# Altium footprint library Sheet12.PCBLIB: 13 footprints
Each footprint in its own frame and in the unit in brackets; x right, y up, seen from the top. Pads: shape width x height; smd on the part's side, far side on the other; paste and mask are expansions set on the pad; w line width, h text height; cw(c..) or ccw(c..) is an arc to the next point about the centre after c.
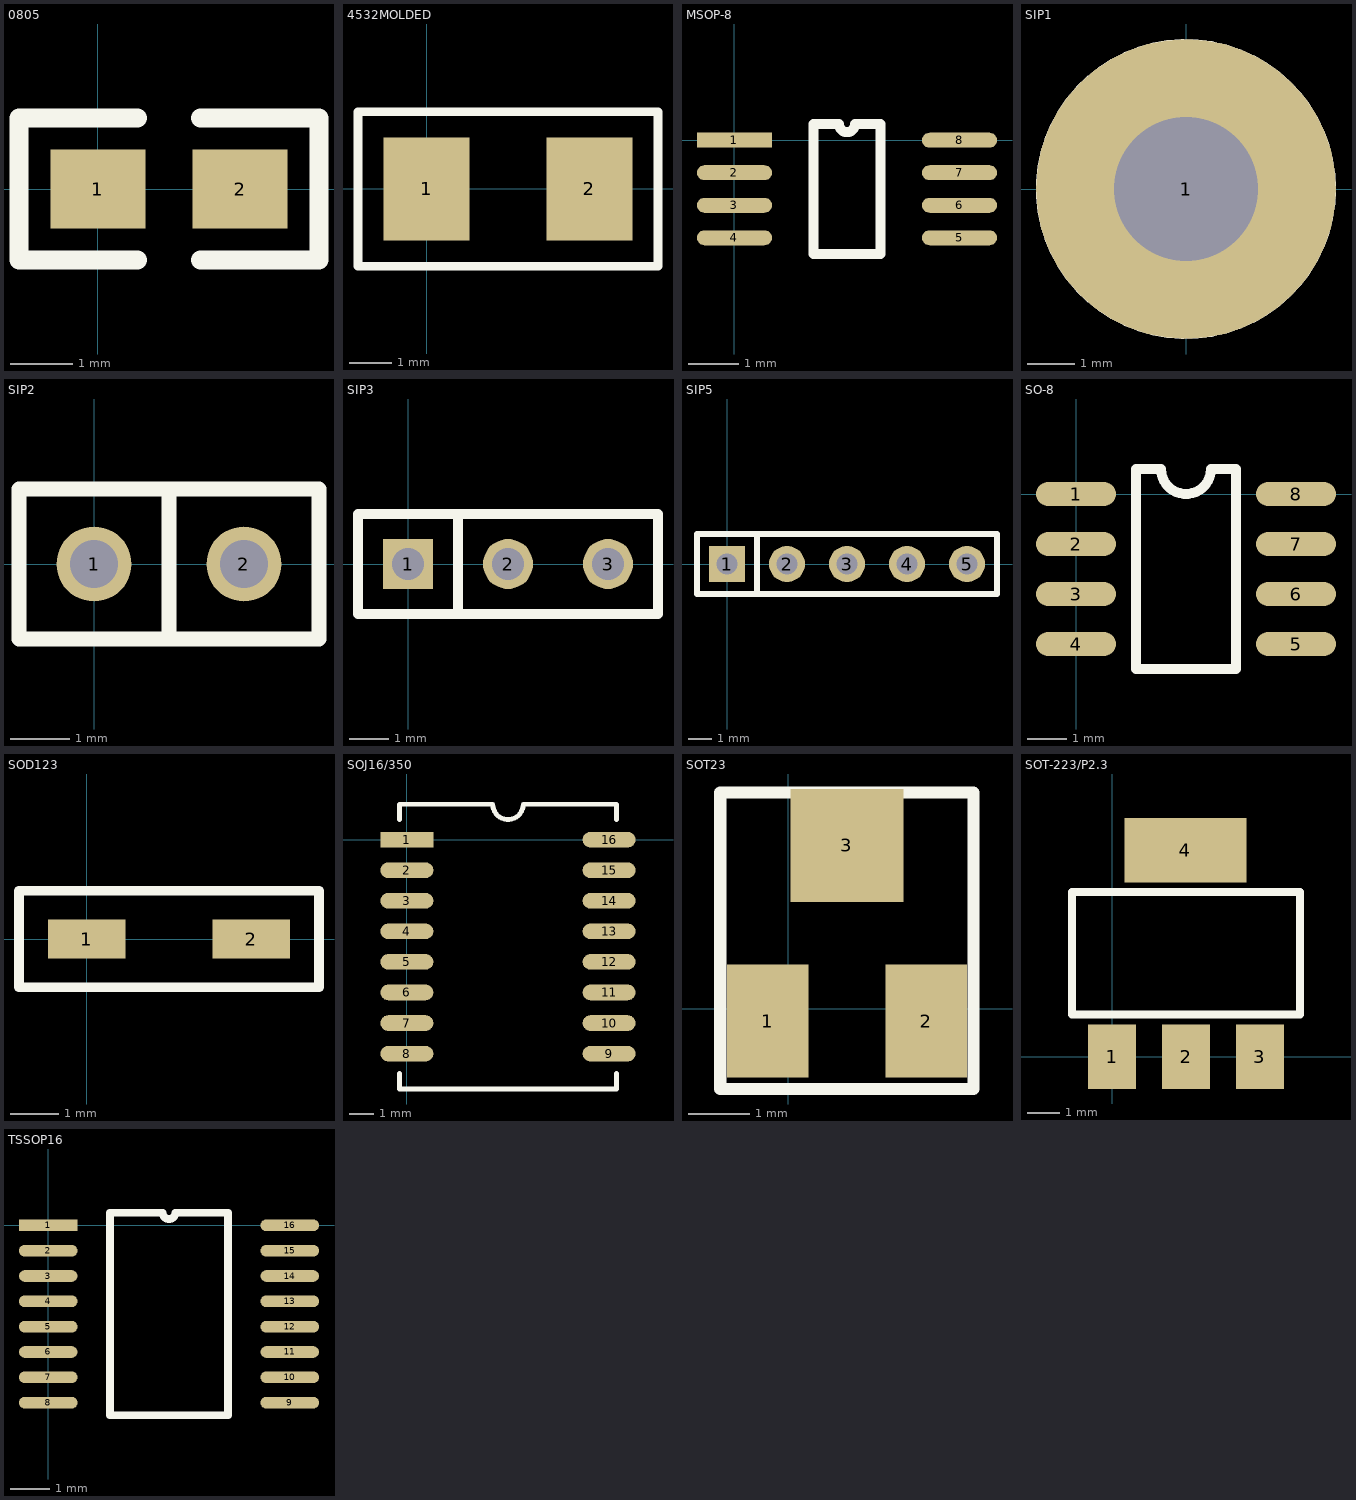
[diagram p0: the footprints below, top view; thin cyan lines are the x and y axes]

## 0805 [mil]
pads (2):
  rect 60x50 smd: 1(0,0) 2(90,0)
TopOverlay:
  lines w12: 25,-45 -50,-45 -50,45 25,45 ; 65,-45 140,-45 140,45 65,45

## 4532MOLDED [mm]
pads (2):
  rect 2x2.4 smd: 1(0,0) 2(3.8,0)
TopOverlay:
  lines w0.2: -1.6,-1.8 -1.6,1.8 5.4,1.8 5.4,-1.8 -1.6,-1.8

## MSOP-8 [mm]
pads (8):
  rect 1.5x0.3 smd: 1(0,0)
  oval 1.5x0.3 smd: 2(0,-0.65) 3(0,-1.3) 4(0,-1.95) 5(4.5,-1.95) 6(4.5,-1.3) 7(4.5,-0.65) 8(4.5,0)
TopOverlay:
  lines w0.2: 1.585,-2.275 2.915,-2.275 2.915,0.325 2.412,0.325 cw(c2.25,0.325) 2.088,0.325 1.585,0.325 1.585,-2.275

## SIP1 [mil]
pads (1):
  round 250 hole 120: 1(0,0)
TopOverlay:
  circle w10: c0,0 r120

## SIP2 [mil]
pads (2):
  round 50 hole 32: 1(0,0) 2(100,0)
TopOverlay:
  lines w10: 50,-50 50,50 ; -50,-50 150,-50 150,50 -50,50 -50,-50

## SIP3 [mil]
pads (3):
  rect 50x50 hole 32: 1(0,0)
  round 50 hole 32: 2(100,0) 3(200,0)
TopOverlay:
  lines w10: 50,-50 50,50 ; -50,-50 -50,50 250,50 250,-50 -50,-50

## SIP5 [mil]
pads (5):
  rect 60x60 hole 35: 1(0,0)
  round 60 hole 35: 2(100,0) 3(200,0) 4(300,0) 5(400,0)
TopOverlay:
  lines w10: 50,-50 50,50 ; -50,-50 -50,50 450,50 450,-50 -50,-50

## SO-8 [mil]
pads (8):
  oval 80x24 smd: 1(0,0) 2(0,-50) 3(0,-100) 4(0,-150) 5(220,-150) 6(220,-100) 7(220,-50) 8(220,0)
TopOverlay:
  lines w10: 60,-175 60,25 85,25 ccw(c110,25) 135,25 160,25 160,-175 60,-175

## SOD123 [mm]
pads (2):
  rect 1.6x0.8 smd: 1(0,0) 2(3.4,0)
TopOverlay:
  lines w0.2: -1.4,-1 4.8,-1 4.8,1 -1.4,1 -1.4,-1

## SOJ16/350 [mm]
pads (16):
  rect 2.2x0.65 smd: 1(0,0)
  oval 2.2x0.65 smd: 2(0,-1.27) 3(0,-2.54) 4(0,-3.81) 5(0,-5.08) 6(0,-6.35) 7(0,-7.62) 8(0,-8.89) 9(8.4,-8.89) 10(8.4,-7.62) 11(8.4,-6.35) 12(8.4,-5.08) 13(8.4,-3.81) 14(8.4,-2.54) 15(8.4,-1.27) 16(8.4,0)
TopOverlay:
  lines w0.2: -0.31,-9.715 -0.31,-10.36 8.71,-10.36 8.71,-9.715 ; -0.31,0.825 -0.31,1.47 3.565,1.47 ccw(c4.2,1.47) 4.835,1.47 8.71,1.47 8.71,0.825

## SOT23 [mil]
height 44.09
pads (3):
  rect 52x72 smd: 1(-13,-8) 2(88,-8)
  rect 72x72 smd: 3(37.4,104)
TopOverlay:
  lines w7.87: -43.31,-51.18 118.11,-51.18 118.11,137.79 -43.31,137.79 -43.31,-51.18

## SOT-223/P2.3 [mil]
pads (4):
  rect 59x79 smd: 1(0,0) 2(90.55,0) 3(181.1,0)
  rect 150x79 smd: 4(89.88,253.54)
TopOverlay:
  lines w10: -49.45,52 230.55,52 230.55,202 -49.45,202 -49.45,52

## TSSOP16 [mm]
pads (16):
  rect 1.5x0.3 smd: 1(0,0)
  oval 1.5x0.3 smd: 2(0,-0.65) 3(0,-1.3) 4(0,-1.95) 5(0,-2.6) 6(0,-3.25) 7(0,-3.9) 8(0,-4.55) 9(6.2,-4.55) 10(6.2,-3.9) 11(6.2,-3.25) 12(6.2,-2.6) 13(6.2,-1.95) 14(6.2,-1.3) 15(6.2,-0.65) 16(6.2,0)
TopOverlay:
  lines w0.2: 1.585,-4.875 1.585,0.325 2.937,0.325 ccw(c3.1,0.325) 3.262,0.325 4.615,0.325 4.615,-4.875 1.585,-4.875